# Altium footprint library LAY_90818_C172.PcbLib: 60 footprints (part 3 of 5)
Each footprint in its own frame and in the unit in brackets; x right, y up, seen from the top. Pads: shape width x height; smd on the part's side, far side on the other; paste and mask are expansions set on the pad; w line width, h text height; cw(c..) or ccw(c..) is an arc to the next point about the centre after c.
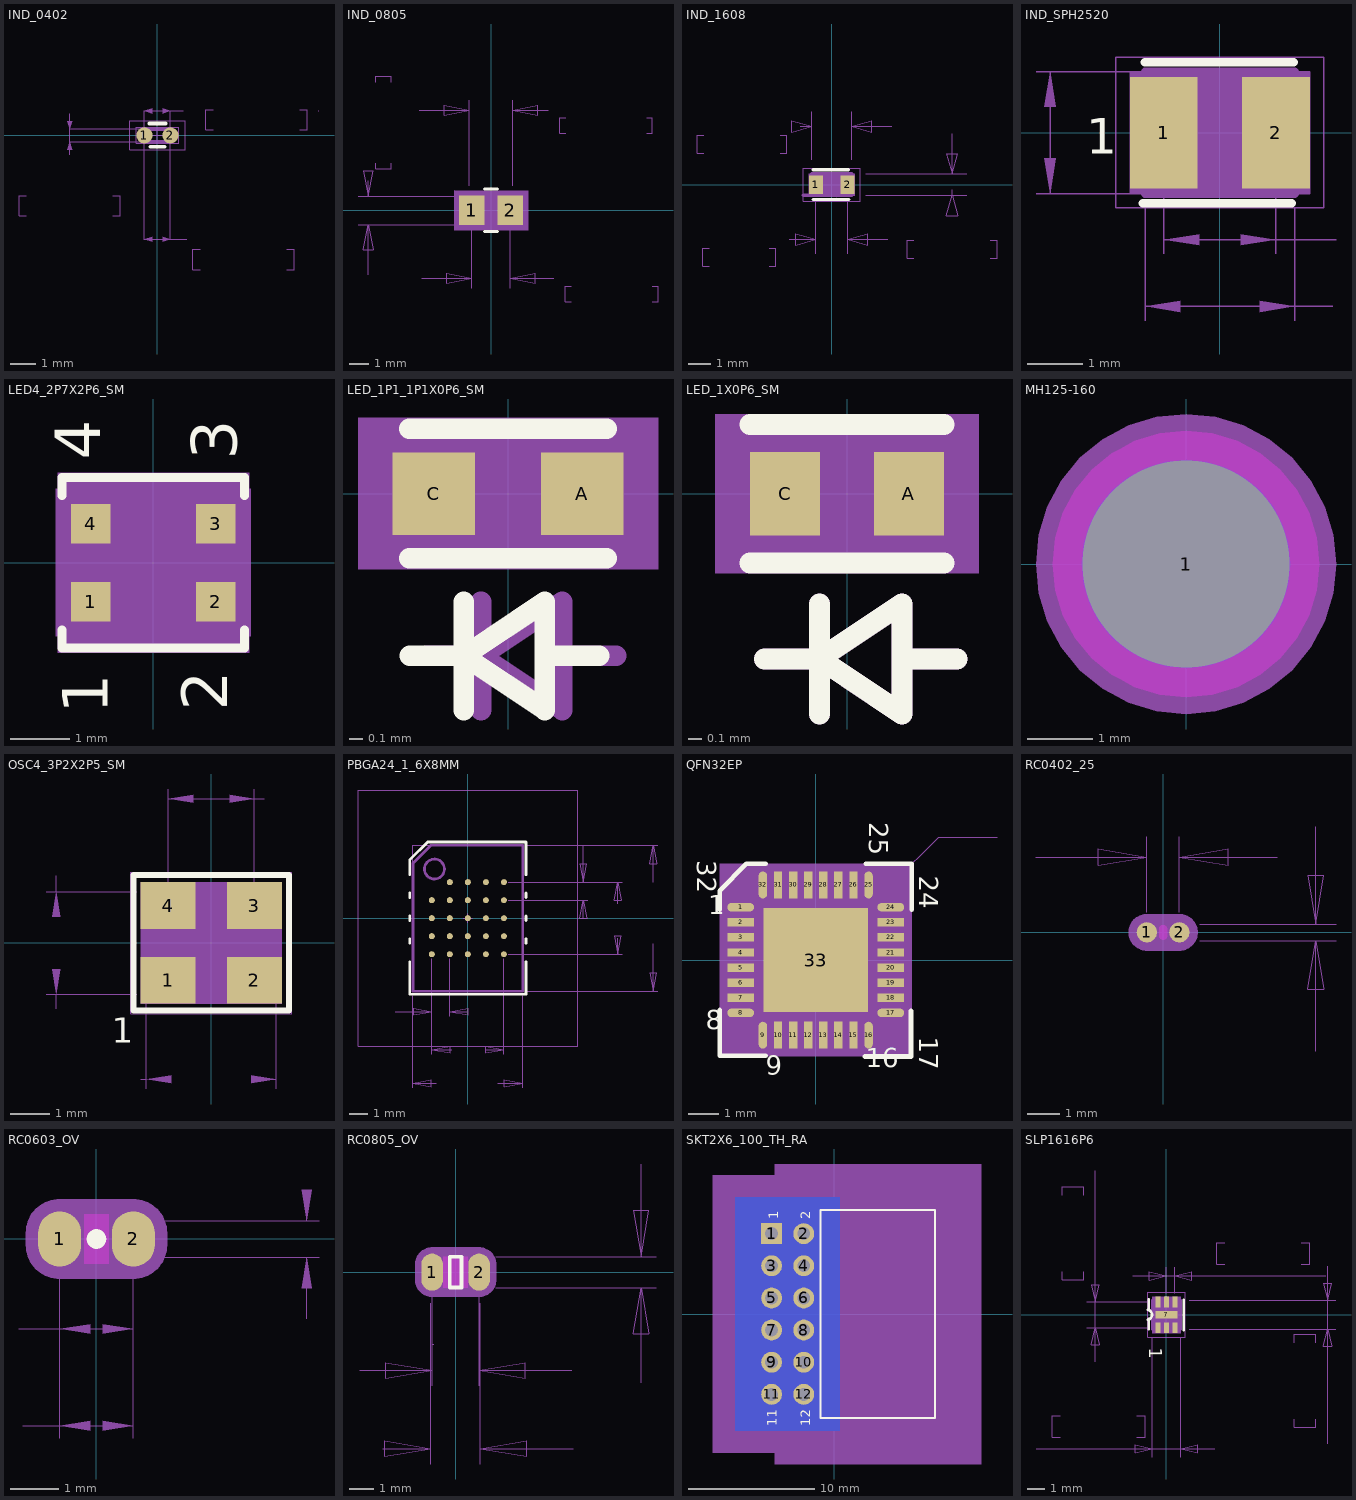
[diagram p2: the footprints below, top view; thin cyan lines are the x and y axes]

## IND_0402 [mil] "IND_0402"
pads (2):
  round 25 smd: 1(-20,0) 2(20,0)
Top Overlay:
  lines w5: -11.5,-17.5 11.5,-17.5
  lines w6: -12.5,18 12.5,18
  text ".Designator" at -125,-10 h30
Top Courtyard:
  lines w1: -32.5,-12.5 -32.5,12.5 32.5,12.5 32.5,-12.5 -32.5,-12.5
Top 3D Body:
  lines w1: -32.5,-12.5 -32.5,12.5 32.5,12.5 32.5,-12.5 -32.5,-12.5
Top Component Center:
  lines w1: -10,0 10,0 ; 0,-10 0,10
Mechanical34:
  text "1" at -20,-4 h10
  text "2" at 20,-4 h10
Mechanical38:
  dashed: 8.2,-163.9 20,-160 8.2,-156.1
  dashed: -8.2,-156.1 -20,-160 -8.2,-163.9
  dashed: 8.2,33.6 20,37.5 8.2,41.4
  dashed: -8.2,41.4 -20,37.5 -8.2,33.6
  dashed: -138.9,21.8 -135,10 -131.1,21.8
  dashed: -131.1,-21.8 -135,-10 -138.9,-21.8
  lines w1: -201.5,-124 -213,-124 -213,-93 -201.5,-93 ; -135.4,-10 -20.4,-10 ; -135.4,10 -20.4,10 ; -135,-30 -135,-10 -135,10 -135,33.6 ; -68.5,-124 -57,-124 -57,-93 -68.5,-93 ; -20,-160.4 -20,-0.4 ; -20,10.4 -20,37.9 ; 20,-160.4 20,-0.4 ; 20,10.4 20,37.9 ; 40,37.5 20,37.5 ; 45,-160 20,-160 ; 66,-206.5 54.5,-206.5 54.5,-175.5 66,-175.5 ; 86,8.5 74.5,8.5 74.5,39.5 86,39.5 ; 199,-206.5 210.5,-206.5 210.5,-175.5 199,-175.5 ; 219,8.5 230.5,8.5 230.5,39.5 219,39.5 ; 247.5,37.5 248.7,37.5 ; 20,-160 -20,-160 20,-160 ; 20,37.5 -20,37.5 20,37.5
  text "IND_0402" at -74,202.2 h25
  text "C025S" at 65,-287.5 h25
  text "ALL DIMS IN MILS[MM]" at -255,-347.5 h25
  text "PADS 1-2" at -190,-287.5 h25
  text "40.00" at 61.5,-144.5 h25
  text "1.02" at 77.5,-206.5 h25
  text "40.00" at 81.5,70.5 h25
  text "1.02" at 97.5,8.5 h25
  text "20.00" at -206,-62 h25
  text "0.51" at -190,-124 h25
Top Assembly:
  lines w6: -20,-10 20,-10 20,10 -20,10 -20,-10
Mechanical40:
  lines w1: -42.5,-22.5 -42.5,22.5 42.5,22.5 42.5,-22.5 -42.5,-22.5

## IND_0805 [mil] "IND_0805"
pads (2):
  rect 51x59 smd: 1(-38.5,0) 2(38.5,0)
Top Overlay:
  lines w6: -13.2,42.5 13,42.5 ; -13,-42.5 13,-42.5
Top Courtyard:
  dashed: -64,-31.5 64,-31.5 64,31.5 -64,31.5
Top 3D Body:
  region: -64,-31.5 64,-31.5 64,31.5 -64,31.5
Top Component Center:
  lines w1: -10,0 10,0 ; 0,-10 0,10
Mechanical 31:
  dashed: -74.1,39.6 -74,-39.5 74,-39.5 74,39.5
Mechanical34:
  text "2" at 39,-3 h10
  text "1" at -30,-4 h10
Mechanical35:
  lines w1: -266,-28.5 23.5,-28.5 ; -266,28.5 23.5,28.5 ; -246,-128.5 -246,-28.5 ; -246,59.25 -246,28.5 ; -230.5,94 -230.5,82.5 -199.5,82.5 -199.5,94 ; -230.5,256 -230.5,267.5 -199.5,267.5 -199.5,256 ; -143.5,200 -43.5,200 ; -138.5,-136 -38.5,-136 ; -43.5,48.5 -43.5,220 ; -38.5,-156 -38.5,-20 ; 38.5,-156 38.5,-20 ; 43.5,48.5 43.5,220 ; 114.25,200 43.5,200 ; 125.25,-136 38.5,-136 ; 149,153.5 137.5,153.5 137.5,184.5 149,184.5 ; 160,-182.5 148.5,-182.5 148.5,-151.5 160,-151.5 ; 311,153.5 322.5,153.5 322.5,184.5 311,184.5 ; 322,-182.5 333.5,-182.5 333.5,-151.5 322,-151.5 ; -246,-28.5 -236,-78.5 -256,-78.5 -246,-28.5 ; -246,28.5 -256,78.5 -236,78.5 -246,28.5 ; -43.5,200 -93.5,190 -93.5,210 -43.5,200 ; -38.5,-136 -88.5,-146 -88.5,-126 -38.5,-136 ; 38.5,-136 88.5,-126 88.5,-146 38.5,-136 ; 43.5,200 93.5,210 93.5,190 43.5,200
  text "R051x059S PINS 1+2" at 159,295 h25
  text "IND_0805" at 62,372 h25
  text "ALL DIMS IN MM[MILS]" at 206.8,-275 h25
  text "2.21" at 173.5,215.5 h25
  text "87.00" at 160.5,153.5 h25
  text "1.96" at 184.5,-120.5 h25
  text "77.00" at 171.5,-182.5 h25
  text "1.45" at -261.5,118.5 h25
  text "57.00" at -199.5,105.5 h25
Top Assembly:
  lines w6: -43.5,-28.5 43.5,-28.5 43.5,28.5 -43.5,28.5 -43.5,-28.5
3D body: height 150, standoff 0, extent -64,-31.5 64,31.5

## IND_1608 [mil] "IND_1608"
pads (2):
  rect 24x32 smd: 1(-27.65,0) 2(27.55,0)
Top Overlay:
  lines w6: -32.05,-25.8 29.95,-25.8 ; -32.05,25.8 28.95,25.8
Top Courtyard:
  dashed: -39.55,-18.8 39.55,-18.8 39.55,18.8 -39.55,18.8
Top 3D Body:
  lines w1: -39.55,-18.8 39.55,-18.8 39.55,18.8 -39.55,18.8 -39.55,-18.8
Top Component Center:
  lines w1: -10.05,0 9.95,0 ; -0.05,-10 -0.05,10
Mechanical 31:
  lines w1: -49.55,-28.8 49.55,-28.8 49.55,28.8 -49.55,28.8 -49.55,-28.8
Mechanical34:
  text "1" at -31.65,0 h10
  text "2" at 23.55,0 h10
Mechanical35:
  lines w1: -223.05,55 -234.55,55 -234.55,86 -223.05,86 ; -213.15,-141.5 -224.65,-141.5 -224.65,-110.5 -213.15,-110.5 ; -109.15,-141.5 -97.65,-141.5 -97.65,-110.5 -109.15,-110.5 ; -90.05,55 -78.55,55 -78.55,86 -90.05,86 ; -74.35,-95 -27.65,-95 ; -55.25,101.5 -34.55,101.5 ; -34.55,43.7 -34.55,126.5 ; -27.65,-120 -27.65,-25 ; 7.65,-22.1 7.65,-21.8 ; 27.55,-120 27.55,-25 ; 34.45,43.7 34.45,126.5 ; 59.45,-18.7 234.45,-18.7 ; 59.45,18.7 234.45,18.7 ; 97.55,-95 27.55,-95 ; 104.45,101.5 34.45,101.5 ; 142.95,-128 131.45,-128 131.45,-97 142.95,-97 ; 209.45,-8.8 209.45,-18.7 ; 209.45,88.7 209.45,18.7 ; 275.95,-128 287.45,-128 287.45,-97 275.95,-97 ; -34.55,101.5 -69.55,91.5 -69.55,111.5 -34.55,101.5 ; -27.65,-95 -62.65,-105 -62.65,-85 -27.65,-95 ; 27.55,-95 62.55,-85 62.55,-105 27.55,-95 ; 34.45,101.5 69.45,111.5 69.45,91.5 34.45,101.5 ; 209.45,-18.7 219.45,-53.7 199.45,-53.7 209.45,-18.7 ; 209.45,18.7 199.45,53.7 219.45,53.7 209.45,18.7
  text "PAD 1,2 R024X032S" at -230.85,248.6 h25
  text "IND_1608" at -129.45,317.8 h25
  text "55.1" at -217.65,-79.5 h25
  text "1.4" at -201.65,-141.5 h25
  text "68.9" at -213.05,117 h25
  text "1.75" at -211.55,55 h25
  text "37.4" at 152.95,-66 h25
  text "0.95" at 154.45,-128 h25
Top Assembly:
  lines w6: -49.45,-18.7 34.45,-18.7 34.45,18.7 -34.55,18.7 -34.55,-18.7
  text ".Designator" at -20.05,-8 h25

## IND_SPH2520 [mil] "IND_SPH2520"
pads (2):
  rect 48x79 smd: 1(-39.75,0) 2(39.75,0)
Top Overlay:
  lines w5.98: -54.65,-50.24 50.87,-50.24 ; -53.23,50 52.28,50
  text ".Designator" at -114,60 h30
  text "1" at -95,-15 h25
Top Courtyard:
  lines w1: -63.76,-43.31 63.76,-43.31 63.76,43.31 -63.76,43.31 -63.76,-43.31
Top 3D Body:
  region: 63.76,43.31 63.76,-43.31 -63.76,-43.31 -63.76,43.31
Top Component Center:
  lines w1: -10,0 10,0 ; 0,-10 0,10
Mechanical 31:
  lines w1: -73.76,-53.31 73.76,-53.31 73.76,53.31 -73.76,53.31 -73.76,-53.31
Mechanical34:
  text "1" at -45.91,-3.49 h10
  text "2" at 33.59,-2.82 h10
Mechanical35:
  dashed: 28.15,-127.28 53.15,-123.28 28.15,-119.28
  dashed: -28.15,-119.28 -53.15,-123.28 -28.15,-127.28
  dashed: -116.47,18.31 -120.46,43.31 -124.46,18.31
  dashed: -124.46,-18.31 -120.46,-43.31 -116.47,-18.31
  dashed: 14.75,-79.96 39.75,-75.97 14.75,-71.97
  dashed: -14.75,-71.97 -39.75,-75.97 -14.75,-79.96
  lines w1: -130.46,-43.31 -63.15,-43.31 ; -130.46,43.31 -63.15,43.31 ; -120.46,-28.17 -120.46,-43.31 -120.46,43.31 ; -53.15,-133.28 -53.15,-53.31 ; -53.15,-123.28 53.15,-123.28 79.87,-123.28 ; -39.75,-85.97 -39.75,-10 ; -39.75,-75.97 39.75,-75.97 82.32,-75.97 ; 39.75,-85.97 39.75,-10 ; 53.15,-133.28 53.15,-53.31
  text "PADS R048x079S" at -148.72,-183.13 h31
  text "IND_SPH2520" at -136.43,122.41 h31
  text "ALL DIMS IN MM" at -153.5,-229.29 h31
  text "2.7" at 106.11,-138.78 h31
  text "2.2" at -104.96,-135.42 h31
  text "2.02" at 108.57,-91.47 h31
Top Assembly:
  lines w5.98: -53.15,-43.31 -53.15,43.31 53.15,43.31 53.15,-43.31 -53.15,-43.31
  text "1" at -97.19,-10.18 h25
3D body: height 150, standoff 0, extent -63.76,-43.31 63.76,43.31

## LED4_2P7X2P6_SM [mil] "LED4_2P7X2P6_SM"
pads (4):
  rect 26x26 smd: 1(-41.3,-25.6) 2(41.3,-25.6) 3(41.3,25.6) 4(-41.3,25.6)
Top Overlay:
  lines w6: -60.1,-44.3 -60.1,-56.2 60.1,-56.2 60.1,-44.3 ; -60.1,44.3 -60.1,56.2 60.1,56.2 60.1,44.3
  text ".Designator" at 105,-21 h30
  text "1" at -29.9,-99.7 h30
  text "3" at 55,68 h30
  text "4" at -35,68 h30
  text "2" at 48.8,-97.5 h30
Top Courtyard:
  dashed: -53.1,49.2 53.1,49.2 53.1,38.6 54.3,38.6 54.3,-38.6 53.1,-38.6 53.1,-49.2 -53.1,-49.2 -53.1,-38.6 -54.3,-38.6 -54.3,38.6 -53.1,38.6
Top 3D Body:
  region: -53.1,49.2 53.1,49.2 53.1,38.6 54.3,38.6 54.3,-38.6 53.1,-38.6 53.1,-49.2 -53.1,-49.2 -53.1,-38.6 -54.3,-38.6 -54.3,38.6 -53.1,38.6
Top Component Center:
  lines w1: -10,0 10,0 ; 0,-10 0,10
Mechanical 31:
  dashed: -63.1,48.6 -63.1,59.2 63.1,59.2 63.1,48.6 64.3,48.6 64.3,-48.6 63.1,-48.6 63.1,-59.2 -63.1,-59.2 -63.1,-48.6 -64.3,-48.6 -64.3,48.6
Mechanical34:
  text "1" at -41.3,-29.6 h10
  text "4" at -41.3,21.6 h10
  text "3" at 41.3,21.6 h10
  text "2" at 41.3,-29.6 h10
Mechanical35:
  text "PADS: S026S" at -4.9,-272.9 h25
  text "ALL DIMS IN MM" at 4.9,-362.2 h25
  text "LED4_2P7X2P6_SM" at 29.5,130 h25
Top Assembly:
  lines w6: -53.1,-49.2 53.1,-49.2 53.1,49.2 -53.1,49.2 -53.1,-49.2
  text "1" at -39.9,-109.7 h25
  text "3" at 83.7,51.3 h25
  text "4" at -83.7,46.4 h25
  text "2" at 38.8,-107.5 h25
3D body: height 150, standoff 0, extent -54.3,-49.2 54.3,49.2

## LED_1P1_1P1X0P6_SM [mil] "LED_1P1_1P1X0P6_SM"
pads (2):
  rect 24x24 smd: A(21.65,0) C(-21.65,0)
Top Overlay:
  lines w6: -28.65,-18.81 28.65,-18.81 ; -28.65,18.81 28.65,18.81 ; -28.62,-47.24 -12.87,-47.24 ; -12.87,-62.99 -12.87,-31.5 ; 10.75,-47.24 26.5,-47.24 ; -12.87,-47.24 10.75,-62.99 10.75,-31.5 -12.87,-47.24
  text ".Designator" at -15,85 h30
Top Courtyard:
  dashed: -33.65,12 -33.65,-12 33.65,-12 33.65,12
Top 3D Body:
  region: -33.65,-12 33.65,-12 33.65,12 -33.65,12
Top Component Center:
  lines w1: -10,0 10,0 ; 0,-10 0,10
Mechanical 31:
  dashed: -43.65,-22 43.65,-22 43.65,22 -43.65,22
Mechanical34:
  text "C" at -21.65,4 h10
  text "A" at 21.65,4 h10
Mechanical35:
  text "PADS S024S" at -157.48,-181.1 h31
  text "ALL DIMS IN MM." at -157.48,-228.35 h31
  text "LED_1P1_1P1X0P6_SM" at -242.25,60.53 h31
Top Assembly:
  lines w6: -23.62,-47.24 -7.87,-47.24 ; -7.87,-62.99 -7.87,-31.5 ; 15.75,-47.24 31.5,-47.24 ; -7.87,-47.24 15.75,-62.99 15.75,-31.5 -7.87,-47.24 ; -21.65,-11.81 -21.65,11.81 21.65,11.81 21.65,-11.81 -21.65,-11.81
3D body: height 150, standoff 0, extent -33.65,-12 33.65,12

## LED_1X0P6_SM [mil] "LED_1X0P6_SM"
pads (2):
  rect 20x24 smd: A(17.72,0) C(-17.72,0)
Top Overlay:
  lines w6: -27.67,-19.8 27.67,-19.8 ; -27.67,19.8 27.67,19.8 ; -23.62,-47.24 -7.87,-47.24 ; -7.87,-62.99 -7.87,-31.5 ; 15.75,-47.24 31.5,-47.24 ; -7.87,-47.24 15.75,-62.99 15.75,-31.5 -7.87,-47.24
  text ".Designator" at 15,40 h30
Top Courtyard:
  dashed: -27.72,-12.79 27.72,-12.79 27.72,12.79 -27.72,12.79
Top 3D Body:
  region: -27.72,-12.79 -27.72,12.79 27.72,12.79 27.72,-12.79
Top Component Center:
  lines w1: -10,0 10,0 ; 0,-10 0,10
Mechanical 31:
  dashed: -37.72,-22.8 37.72,-22.8 37.72,22.8 -37.72,22.8
Mechanical34:
  text "A" at 17.72,-4 h10
  text "C" at -17.72,-4 h10
Mechanical35:
  text "PADS R020X024S" at -157.48,-181.1 h31
  text "ALL DIMS IN MM." at -157.48,-228.35 h31
  text "LED_1X0P6_SM" at -157.48,204.72 h31
Top Assembly:
  lines w6: -23.62,-47.24 -7.87,-47.24 ; -7.87,-62.99 -7.87,-31.5 ; 15.75,-47.24 31.5,-47.24 ; -7.87,-47.24 15.75,-62.99 15.75,-31.5 -7.87,-47.24 ; -20.67,-12.79 20.67,-12.79 20.67,12.79 -20.67,12.79 -20.67,-12.79
3D body: height 150, standoff 0, extent -27.72,-12.79 27.72,12.79

## MH125-160 [mil] "MH125-160"
pads (1):
  round 60 hole 125 unplated: 1(0,0)
Bottom Layer:
  region: 62.8,0 61.6,12.25 58.02,24.03 52.22,34.89 44.41,44.41 34.89,52.22 24.03,58.02 12.25,61.6 0,62.8 -12.25,61.6 -24.03,58.02 -31.27,54.16 -34.89,52.22 -44.41,44.41 -52.22,34.89 -58.02,24.03 -61.6,12.25 -62.8,0 -61.6,-12.25 -58.02,-24.03 -52.22,-34.89 -44.41,-44.41 -34.89,-52.22 -31.27,-54.16 -24.03,-58.02 -12.25,-61.6 0,-62.8 12.25,-61.6 24.03,-58.02 34.89,-52.22 44.41,-44.41 52.22,-34.89 58.02,-24.03 61.6,-12.25
Bottom Overlay:
  text ".Designator" at -213.5,122 h30
Top Courtyard:
  dashed: 62.8,0 61.6,12.25 58.02,24.03 52.22,34.89 44.41,44.41 34.89,52.22 24.03,58.02 12.25,61.6 0,62.8 -12.25,61.6 -24.03,58.02 -31.27,54.16 -34.89,52.22 -44.41,44.41 -52.22,34.89 -58.02,24.03 -61.6,12.25 -62.8,0 -61.6,-12.25 -58.02,-24.03 -52.22,-34.89 -44.41,-44.41 -34.89,-52.22 -31.27,-54.16 -24.03,-58.02 -12.25,-61.6 0,-62.8 12.25,-61.6 24.03,-58.02 34.89,-52.22 44.41,-44.41 52.22,-34.89 58.02,-24.03 61.6,-12.25
Bottom Courtyard:
  dashed: 62.8,0 61.6,12.25 58.02,24.03 52.22,34.89 44.41,44.41 34.89,52.22 24.03,58.02 12.25,61.6 0,62.8 -12.25,61.6 -24.03,58.02 -31.27,54.16 -34.89,52.22 -44.41,44.41 -52.22,34.89 -58.02,24.03 -61.6,12.25 -62.8,0 -61.6,-12.25 -58.02,-24.03 -52.22,-34.89 -44.41,-44.41 -34.89,-52.22 -31.27,-54.16 -24.03,-58.02 -12.25,-61.6 0,-62.8 12.25,-61.6 24.03,-58.02 34.89,-52.22 44.41,-44.41 52.22,-34.89 58.02,-24.03 61.6,-12.25
Top 3D Body:
  region: 62.8,0 61.6,12.25 58.02,24.03 52.22,34.89 44.41,44.41 34.89,52.22 24.03,58.02 12.25,61.6 0,62.8 -12.25,61.6 -24.03,58.02 -31.27,54.16 -34.89,52.22 -44.41,44.41 -52.22,34.89 -58.02,24.03 -61.6,12.25 -62.8,0 -61.6,-12.25 -58.02,-24.03 -52.22,-34.89 -44.41,-44.41 -34.89,-52.22 -31.27,-54.16 -24.03,-58.02 -12.25,-61.6 0,-62.8 12.25,-61.6 24.03,-58.02 34.89,-52.22 44.41,-44.41 52.22,-34.89 58.02,-24.03 61.6,-12.25
Top Component Center:
  lines w1: -10,0 10,0 ; 0,-10 0,10
Multi-Layer keep-out:
  region: 80.39,0 78.84,15.68 74.27,30.76 66.84,44.66 56.84,56.84 44.66,66.84 30.76,74.27 15.68,78.84 0,80.39 -15.68,78.84 -30.76,74.27 -40.02,69.32 -44.66,66.84 -56.84,56.84 -66.84,44.66 -74.27,30.76 -78.84,15.68 -80.39,0 -78.84,-15.68 -74.27,-30.76 -66.84,-44.66 -56.84,-56.84 -44.66,-66.84 -40.02,-69.32 -30.76,-74.27 -15.68,-78.84 0,-80.39 15.68,-78.84 30.76,-74.27 44.66,-66.84 56.84,-56.84 66.84,-44.66 74.27,-30.76 78.84,-15.68
  region: 80.39,0 78.84,15.68 74.27,30.76 66.84,44.66 56.84,56.84 44.66,66.84 30.76,74.27 15.68,78.84 0,80.39 -15.68,78.84 -30.76,74.27 -40.02,69.32 -44.66,66.84 -56.84,56.84 -66.84,44.66 -74.27,30.76 -78.84,15.68 -80.39,0 -78.84,-15.68 -74.27,-30.76 -66.84,-44.66 -56.84,-56.84 -44.66,-66.84 -40.02,-69.32 -30.76,-74.27 -15.68,-78.84 0,-80.39 15.68,-78.84 30.76,-74.27 44.66,-66.84 56.84,-56.84 66.84,-44.66 74.27,-30.76 78.84,-15.68
Mechanical 31:
  dashed: 90.44,0 88.7,17.64 83.55,34.61 75.19,50.24 63.95,63.95 50.24,75.19 34.61,83.55 17.64,88.7 0,90.44 -17.64,88.7 -34.61,83.55 -45.02,77.98 -50.24,75.19 -63.95,63.95 -75.19,50.24 -83.55,34.61 -88.7,17.64 -90.44,0 -88.7,-17.64 -83.55,-34.61 -75.19,-50.24 -63.95,-63.95 -50.24,-75.19 -45.02,-77.98 -34.61,-83.55 -17.64,-88.7 0,-90.44 17.64,-88.7 34.61,-83.55 50.24,-75.19 63.95,-63.95 75.19,-50.24 83.55,-34.61 88.7,-17.64
Mechanical34:
  text "1" at -4,0 h10
Mechanical35:
  text "PAD C125-125N" at -187.4,-162.1 h31
  text "MH125-160" at -110,161.7 h31
3D body: height 150, standoff 0, extent -62.8,-62.8 62.8,62.8

## OSC4_3P2X2P5_SM [mil] "OSC4_3P2X2P5_SM"
pads (4):
  rect 55x47 smd: 1(-43.29,-37.4) 2(43.33,-37.4) 3(43.33,37.4) 4(-43.29,37.4)
Top Overlay:
  lines w6: -77.81,-67.9 -77.81,67.9 77.81,67.9 77.81,-67.9 -77.81,-67.9
  text ".Designator" at 111.02,-10 h30
  text "1" at -99.98,-100 h25
Top Courtyard:
  dashed: -70.81,-60.9 70.81,-60.9 70.81,60.9 -70.81,60.9
Top 3D Body:
  region: -70.81,-60.9 70.81,-60.9 70.81,60.9 -70.81,60.9
Top Component Center:
  lines w1: -9.98,0 10.02,0 ; 0.02,-10 0.02,10
Mechanical 31:
  lines w1: -80.81,-70.9 80.81,-70.9 80.81,70.9 -80.81,70.9 -80.81,-70.9
Mechanical34:
  text "4" at -45.28,24.41 h10
  text "1" at -45.28,-44.41 h10
  text "3" at 42.32,24.41 h10
  text "2" at 42.32,-44.41 h10
Mechanical35:
  dashed: 18.33,140.34 43.33,144.33 18.33,148.33
  dashed: -18.29,148.33 -43.29,144.33 -18.29,140.34
  dashed: 39.98,-140.41 64.98,-136.42 39.98,-132.42
  dashed: -39.94,-132.42 -64.94,-136.42 -39.94,-140.41
  dashed: -151.53,26.18 -155.53,51.18 -159.53,26.18
  dashed: -159.53,-26.18 -155.53,-51.18 -151.53,-26.18
  lines w1: -165.53,-51.18 -74.94,-51.18 ; -165.53,51.18 -74.94,51.18 ; -155.53,-66.16 -155.53,-51.18 ; -155.53,51.18 -155.53,67.34 ; -70.86,-136.42 -64.94,-136.42 ; -64.94,-146.42 -64.94,-61.18 ; -43.29,41.5 -43.29,154.33 ; -43.29,144.33 43.33,144.33 53.27,144.33 ; 43.33,41.5 43.33,154.33 ; 62.63,-136.42 64.98,-136.42 ; 64.98,-146.42 64.98,-61.18
  text "PADS R055X047S" at -171.69,-223.35 h31
  text "OSC4_3P2X2P5_SM" at -173.7,241.42 h31
  text "ALL DIMS IN MM" at -169.68,-270 h31
  text "2.2" at 79.52,128.83 h31
  text "3.3" at -44.61,-151.92 h31
  text "2.6" at -140.03,-39.91 h31
Top Assembly:
  lines w6: -64.94,-51.18 64.98,-51.18 64.98,51.18 -64.94,51.18 -64.94,-51.18
  text "1" at -114.15,-57.16 h25
3D body: height 150, standoff 0, extent -70.81,-60.9 70.81,60.9

## PBGA24_1_6X8MM [mil] "PBGA24_1_6X8MM"
pads (24):
  round 13 smd: A2(-39.37,78.74) A3(0,78.74) A4(39.37,78.74) A5(78.74,78.74) B1(-78.74,39.37) B2(-39.37,39.37) B3(0,39.37) B4(39.37,39.37) B5(78.74,39.37) C1(-78.74,0) C2(-39.37,0) C3(0,0) C4(39.37,0) C5(78.74,0) D1(-78.74,-39.37) D2(-39.37,-39.37) D3(0,-39.37) D4(39.37,-39.37) D5(78.74,-39.37) E1(-78.74,-78.74) E2(-39.37,-78.74) E3(0,-78.74) E4(39.37,-78.74) E5(78.74,-78.74)
Top Overlay:
  lines w6: -127.08,-95 -127.08,-166.45 127.08,-166.45 127.08,-95 ; -127.08,-55 -127.08,-45 ; -127.08,-5 -127.08,5 ; -127.08,45 -127.08,55 ; -127.08,95 -127.08,127.08 -87.71,166.45 127.08,166.45 127.08,95 ; 127.08,-55 127.08,-45 ; 127.08,-5 127.08,5 ; 127.08,45 127.08,55
Top Courtyard:
  lines w1: -120.08,-159.45 120.08,-159.45 120.08,159.45 -120.08,159.45 -120.08,-159.45
Top 3D Body:
  lines w1: -120.08,-159.45 120.08,-159.45 120.08,159.45 -120.08,159.45 -120.08,-159.45
Top Component Center:
  lines w1: -10,0 10,0 ; 0,-10 0,10
Mechanical 31:
  lines w1: -240.08,-279.45 240.08,-279.45 240.08,279.45 -240.08,279.45 -240.08,-279.45
Mechanical34:
  text "B4" at 34.1,34.34 h10
  text "E4" at 34.1,-83.77 h10
  text "D1" at -84.01,-44.4 h10
  text "A4" at 34.1,73.71 h10
  text "A3" at -5.27,73.71 h10
  text "C2" at -44.64,-5.03 h10
  text "B2" at -44.64,34.34 h10
  text "C3" at -5.27,-5.03 h10
  text "E1" at -84.01,-83.77 h10
  text "E2" at -44.64,-83.77 h10
  text "E3" at -5.27,-83.77 h10
  text "D5" at 73.47,-44.4 h10
  text "D4" at 34.1,-44.4 h10
  text "C4" at 34.1,-5.03 h10
  text "D2" at -44.64,-44.4 h10
  text "D3" at -5.27,-44.4 h10
  text "C5" at 73.47,-5.03 h10
  text "A2" at -44.64,73.71 h10
  text "A5" at 73.47,73.71 h10
  text "B1" at -84.01,34.34 h10
  text "B5" at 73.47,34.34 h10
  text "E5" at 73.47,-83.77 h10
  text "B3" at -5.27,34.34 h10
  text "C1" at -84.01,-5.03 h10
Mechanical35:
  lines w1: -158.74,-203.95 -78.74,-203.95 ; -120.08,-370.46 -120.08,-169.45 ; -78.74,-297.09 -78.74,-88.74 -78.74,-213.95 ; -68.7,-360.46 -120.08,-360.46 ; -39.37,-213.95 -39.37,-88.74 ; -35.73,-287.09 -78.74,-287.09 ; -0.31,-203.95 -39.37,-203.95 ; 39.76,-287.09 78.74,-287.09 ; 64.79,-360.46 120.08,-360.46 ; 78.74,-297.09 78.74,-88.74 ; 88.74,-78.74 337.74,-78.74 ; 88.74,39.37 262.5,39.37 ; 120.08,-370.46 120.08,-169.45 ; 130.08,-159.45 415.56,-159.45 ; 130.08,159.45 415.56,159.45 ; 252.5,1.15 252.5,39.37 ; 252.5,158.74 252.5,78.74 ; 262.5,78.74 88.74,78.74 337.74,78.74 ; 327.74,-43.78 327.74,-78.74 ; 327.74,31.72 327.74,78.74 ; 405.56,-55.39 405.56,-159.45 ; 405.56,78.11 405.56,159.45 ; -120.08,-360.46 -80.08,-352.96 -80.08,-367.96 -120.08,-360.46 ; -78.74,-287.09 -38.74,-279.59 -38.74,-294.59 -78.74,-287.09 ; -78.74,-203.95 -118.74,-211.45 -118.74,-196.45 -78.74,-203.95 ; -39.37,-203.95 0.63,-196.45 0.63,-211.45 -39.37,-203.95 ; 78.74,-287.09 38.74,-294.59 38.74,-279.59 78.74,-287.09 ; 120.08,-360.46 80.08,-367.96 80.08,-352.96 120.08,-360.46 ; 252.5,39.37 260,-0.63 245,-0.63 252.5,39.37 ; 252.5,78.74 245,118.74 260,118.74 252.5,78.74 ; 327.74,-78.74 320.24,-38.74 335.24,-38.74 327.74,-78.74 ; 327.74,78.74 335.24,38.74 320.24,38.74 327.74,78.74 ; 405.56,-159.45 398.06,-119.45 413.06,-119.45 405.56,-159.45 ; 405.56,159.45 413.06,119.45 398.06,119.45 405.56,159.45
  text "PBGA24_1_6X8MM" at -180.82,256.06 h31
  text "PADS A2-E5- C013S" at -201.82,-457.71 h31
  text "ALL DIMS ARE IN MM" at -204.85,-525.99 h31
  text "4" at 343.24,-17.53 h31
  text "8.1" at 421.06,-29.14 h31
  text "1" at 25.94,-219.45 h31
  text "4" at -9.48,-302.59 h31
  text "6.1" at -42.46,-375.96 h31
  text "1" at 268,-48.1 h31
Top Assembly:
  circle w6: c-73.07,107.41 r21.78
  lines w6: -120.08,-159.45 120.08,-159.45 120.08,159.45 -80.71,159.45 -120.08,120.08 -120.08,-159.45
  text "A" at -159.92,75.47 h25
  text "E" at -162.66,-98.8 h25
  text ".Designator" at -16.89,-9.4 h25
  text "1" at -95.41,184.13 h25
  text "5" at 72,184.82 h25

## QFN32EP [mil] "QFN32EP"
pads (33):
  oval 35x11 smd: 1(-98.01,68.95) 8(-98.01,-68.95) 17(98.01,-68.95) 24(98.01,68.95)
  rect 35x11 smd: 2(-98.01,49.25) 3(-98.01,29.55) 4(-98.01,9.85) 5(-98.01,-9.85) 6(-98.01,-29.55) 7(-98.01,-49.25) 18(98.01,-49.25) 19(98.01,-29.55) 20(98.01,-9.85) 21(98.01,9.85) 22(98.01,29.55) 23(98.01,49.25)
  oval 11x35 smd: 9(-68.95,-98.01) 16(68.95,-98.01) 25(68.95,98.01) 32(-68.95,98.01)
  rect 11x35 smd: 10(-49.25,-98.01) 11(-29.55,-98.01) 12(-9.85,-98.01) 13(9.85,-98.01) 14(29.55,-98.01) 15(49.25,-98.01) 26(49.25,98.01) 27(29.55,98.01) 28(9.85,98.01) 29(-9.85,98.01) 30(-29.55,98.01) 31(-49.25,98.01)
  rect 136x136 smd: 33(0,0)
Top Overlay:
  lines w6: -125.51,-65.12 -125.51,-125.12 -65.51,-125.12 ; -125.51,65.51 -125.51,90.51 -90.51,125.51 -65.51,125.51 ; 64.33,-125.91 124.33,-125.91 124.33,-65.91 ; 65.12,125.91 125.12,125.91 125.12,65.91
  text ".Designator" at 20,195 h30
  text "1" at -140,60 h25
  text "8" at -143.31,-90 h25
  text "9" at -65,-150 h25
  text "16" at 65,-140 h25
  text "17" at 135,-100 h25
  text "24" at 135,110 h25
  text "25" at 70,180 h25
  text "32" at -155,130 h25
Top Paste:
  dashed: -63,5 -5,5 -5,63 -63,63
  dashed: 5,5 63,5 63,63 5,63
  dashed: -63,-63 -5,-63 -5,-5 -63,-5
  dashed: 5,-63 63,-63 63,-5 5,-5
Top Courtyard:
  dashed: 115.51,115.51 115.51,-115.51 -115.51,-115.51 -115.51,115.51
Top 3D Body:
  region: -115.51,-115.51 115.51,-115.51 115.51,115.51 -115.51,115.51
Top Component Center:
  lines w1: -10,0 10,0 ; 0,-10 0,10
Mechanical 31:
  dashed: -125.51,-125.51 125.51,-125.51 125.51,125.51 -125.51,125.51
Mechanical34:
  text "15" at 49.25,-90.01 h10
  text "14" at 29.55,-90.01 h10
  text "21" at 98.01,17.85 h10
  text "13" at 9.85,-90.01 h10
  text "20" at 98.01,-1.85 h10
  text "24" at 98.01,76.95 h10
  text "25" at 68.95,106.01 h10
  text "18" at 98.01,-41.25 h10
  text "6" at -98.01,-25.55 h10
  text "31" at -49.25,106.01 h10
  text "30" at -29.55,106.01 h10
  text "28" at 9.85,106.01 h10
  text "29" at -9.85,106.01 h10
  text "17" at 98.01,-60.95 h10
  text "19" at 98.01,-21.55 h10
  text "27" at 29.55,106.01 h10
  text "1" at -98.01,72.95 h10
  text "2" at -98.01,53.25 h10
  text "5" at -98.01,-5.85 h10
  text "22" at 98.01,37.55 h10
  text "23" at 98.01,57.25 h10
  text "32" at -68.95,106.01 h10
  text "16" at 68.95,-90.01 h10
  text "3" at -98.01,33.55 h10
  text "26" at 49.25,106.01 h10
  text "12" at -9.85,-90.01 h10
  text "7" at -98.01,-45.25 h10
  text "11" at -29.55,-90.01 h10
  text "10" at -49.25,-90.01 h10
  text "9" at -68.95,-94.01 h10
  text "8" at -98.01,-64.95 h10
  text "33" at 0,8 h10
  text "4" at -98.01,13.85 h10
Mechanical35:
  lines w1: 236.6,160.46 160.46,160.46 101.4,101.41 ; 101.42,101.42 -77.4,101.42 -101.42,77.4 -101.42,-101.42 101.42,-101.42 101.42,101.42 ; 101.4,101.41 121.91,116.26 116.25,121.91 101.4,101.41
  text "QFN32EP" at -1.97,366.72 h31
  text "25" at 66.93,152.28 h25
  text "32" at -98.82,161.34 h25
  text "1" at -135.83,71.42 h25
  text "8" at -140.94,-86.85 h25
  text "9" at -68.11,-141.97 h25
  text "16" at 68.9,-131.57 h25
  text "17" at 147.24,-61.1 h25
  text "24" at 143.31,79.06 h25
  text "OUTLINE" at 260.47,150.16 h31
  text "PACKAGE" at 259.52,196.46 h31
  text "ALL DIMS ARE IN MM" at -251.81,-315.13 h31
  text "(DIM. FOR REF. ONLY)" at -278.83,-363.62 h31
Top Assembly:
  lines w6: -101.4,-101.4 101.4,-101.4 101.4,101.4 -77.4,101.4 -101.4,77.4 -101.4,-101.4
  text "1" at -135.61,70.49 h25
  text "8" at -140.55,-87.24 h25
  text "9" at -68.42,-141.04 h25
  text "16" at 68.9,-130.79 h25
  text "17" at 146.85,-61.1 h25
  text "24" at 143.31,79.45 h25
  text "25" at 66.93,152.28 h25
  text "32" at -98.82,160.94 h25
3D body: height 150, standoff 0, extent -115.51,-115.51 115.51,115.51

## RC0402_25 [mil] "RC0402_25"
pads (2):
  round 25 smd: 1(-20,0) 2(20,0)
Top Layer keep-out:
  region: 5,4 5,-4 4.98,-4.44 4.92,-4.87 4.83,-5.29 4.7,-5.71 4.53,-6.11 4.33,-6.5 4.1,-6.87 3.83,-7.21 3.54,-7.54 3.21,-7.83 2.87,-8.1 2.5,-8.33 2.11,-8.53 1.71,-8.7 1.29,-8.83 0.87,-8.92 0.44,-8.98 0,-9 -0.44,-8.98 -0.87,-8.92 -1.29,-8.83 -1.71,-8.7 -2.11,-8.53 -2.5,-8.33 -2.87,-8.1 -3.21,-7.83 -3.54,-7.54 -3.83,-7.21 -4.1,-6.87 -4.33,-6.5 -4.53,-6.11 -4.7,-5.71 -4.83,-5.29 -4.92,-4.87 -4.98,-4.44 -5,-4 -5,4 -4.98,4.44 -4.92,4.87 -4.83,5.29 -4.7,5.71 -4.53,6.11 -4.33,6.5 -4.1,6.87 -3.83,7.21 -3.54,7.54 -3.21,7.83 -2.87,8.1 -2.5,8.33 -2.11,8.53 -1.71,8.7 -1.29,8.83 -0.87,8.92 -0.44,8.98 0,9 0.44,8.98 0.87,8.92 1.29,8.83 1.71,8.7 2.11,8.53 2.5,8.33 2.87,8.1 3.21,7.83 3.54,7.54 3.83,7.21 4.1,6.87 4.33,6.5 4.53,6.11 4.7,5.71 4.83,5.29 4.92,4.87 4.98,4.44
Top Courtyard:
  dashed: 20,-12.5 21.09,-12.45 22.17,-12.31 23.24,-12.07 24.28,-11.75 25.28,-11.33 26.25,-10.83 27.17,-10.24 28.03,-9.58 28.84,-8.84 29.58,-8.03 30.24,-7.17 30.83,-6.25 31.33,-5.28 31.75,-4.28 32.07,-3.24 32.31,-2.17 32.45,-1.09 32.5,0 32.45,1.09 32.31,2.17 32.07,3.24 31.75,4.28 31.33,5.28 30.83,6.25 30.24,7.17 29.58,8.03 28.84,8.84 28.03,9.58 27.17,10.24 26.25,10.83 25.28,11.33 24.28,11.75 23.24,12.07 22.17,12.31 21.09,12.45 20,12.5 -20,12.5 -21.09,12.45 -22.17,12.31 -23.24,12.07 -24.28,11.75 -25.28,11.33 -26.25,10.83 -27.17,10.24 -28.03,9.58 -28.84,8.84 -29.58,8.03 -30.24,7.17 -30.83,6.25 -31.33,5.28 -31.75,4.28 -32.07,3.24 -32.31,2.17 -32.45,1.09 -32.5,0 -32.45,-1.09 -32.31,-2.17 -32.07,-3.24 -31.75,-4.28 -31.33,-5.28 -30.83,-6.25 -30.24,-7.17 -29.58,-8.03 -28.84,-8.84 -28.03,-9.58 -27.17,-10.24 -26.25,-10.83 -25.28,-11.33 -24.28,-11.75 -23.24,-12.07 -22.17,-12.31 -21.09,-12.45 -20,-12.5
Top 3D Body:
  region: 20,-12.5 21.09,-12.45 22.17,-12.31 23.24,-12.07 24.28,-11.75 25.28,-11.33 26.25,-10.83 27.17,-10.24 28.03,-9.58 28.84,-8.84 29.58,-8.03 30.24,-7.17 30.83,-6.25 31.33,-5.28 31.75,-4.28 32.07,-3.24 32.31,-2.17 32.45,-1.09 32.5,0 32.45,1.09 32.31,2.17 32.07,3.24 31.75,4.28 31.33,5.28 30.83,6.25 30.24,7.17 29.58,8.03 28.84,8.84 28.03,9.58 27.17,10.24 26.25,10.83 25.28,11.33 24.28,11.75 23.24,12.07 22.17,12.31 21.09,12.45 20,12.5 -20,12.5 -21.09,12.45 -22.17,12.31 -23.24,12.07 -24.28,11.75 -25.28,11.33 -26.25,10.83 -27.17,10.24 -28.03,9.58 -28.84,8.84 -29.58,8.03 -30.24,7.17 -30.83,6.25 -31.33,5.28 -31.75,4.28 -32.07,3.24 -32.31,2.17 -32.45,1.09 -32.5,0 -32.45,-1.09 -32.31,-2.17 -32.07,-3.24 -31.75,-4.28 -31.33,-5.28 -30.83,-6.25 -30.24,-7.17 -29.58,-8.03 -28.84,-8.84 -28.03,-9.58 -27.17,-10.24 -26.25,-10.83 -25.28,-11.33 -24.28,-11.75 -23.24,-12.07 -22.17,-12.31 -21.09,-12.45 -20,-12.5
Top Component Center:
  lines w1: -10,0 10,0 ; 0,-10 0,10
Mechanical 31:
  dashed: -20,-22.5 -21.96,-22.41 -23.91,-22.16 -25.82,-21.73 -27.7,-21.14 -29.51,-20.39 -31.25,-19.49 -32.91,-18.43 -34.46,-17.24 -35.91,-15.91 -37.24,-14.46 -38.43,-12.91 -39.49,-11.25 -40.39,-9.51 -41.14,-7.7 -41.73,-5.82 -42.16,-3.91 -42.41,-1.96 -42.5,0 -42.41,1.96 -42.16,3.91 -41.73,5.82 -41.14,7.7 -40.39,9.51 -39.49,11.25 -38.43,12.91 -37.24,14.46 -35.91,15.91 -34.46,17.24 -32.91,18.43 -31.25,19.49 -29.51,20.39 -27.7,21.14 -25.82,21.73 -23.91,22.16 -21.96,22.41 -20,22.5 20,22.5 21.96,22.41 23.91,22.16 25.82,21.73 27.7,21.14 29.51,20.39 31.25,19.49 32.91,18.43 34.46,17.24 35.91,15.91 37.24,14.46 38.43,12.91 39.49,11.25 40.39,9.51 41.14,7.7 41.73,5.82 42.16,3.91 42.41,1.96 42.5,0 42.41,-1.96 42.16,-3.91 41.73,-5.82 41.14,-7.7 40.39,-9.51 39.49,-11.25 38.43,-12.91 37.24,-14.46 35.91,-15.91 34.46,-17.24 32.91,-18.43 31.25,-19.49 29.51,-20.39 27.7,-21.14 25.82,-21.73 23.91,-22.16 21.96,-22.41 20,-22.5
Mechanical34:
  text "1" at -16,0 h10
  text "2" at 24,0 h10
Mechanical35:
  lines w1: -156.3,92.5 -20,92.5 ; -20,25 -20,117.5 ; 20,25 20,117.5 ; 45,-10 212.5,-10 ; 45,10 212.5,10 ; 140,92.5 20,92.5 ; 187.5,-146.3 187.5,-10 ; 187.5,130 187.5,10 ; -20,92.5 -80,82.5 -80,102.5 -20,92.5 ; 20,92.5 80,102.5 80,82.5 20,92.5 ; 187.5,-10 197.5,-70 177.5,-70 187.5,-10 ; 187.5,10 177.5,70 197.5,70 187.5,10
  text ".020" at 203,-285.5 h25
  text ".040" at -295.5,77 h25
  text "ALL DIMS IN INCH" at 74,-203.5 h25
  text "RC0402_25" at -111.5,198.5 h25
  text "PAD C025S" at -198,-141.5 h25
Top Assembly:
  lines w6: -20,-10 20,-10 20,10 -20,10 -20,-10
3D body: height 150, standoff 0, extent -32.5,-12.5 32.5,12.5

## RC0603_OV [mil] "RC0603_OV"
pads (2):
  oval 35x45 smd: 1(-30,0) 2(30,0)
Top Layer keep-out:
  region: -10,20 10,20 10,-20 -10,-20
Top Overlay:
  circle w6: c0,0 r5
  dashed: 3.03,0.04 2.14,-2.1 0,-2.99 -1.41,-2.4 -2.14,-2.1 -3.03,0.04 -2.14,2.18 -1.41,2.48 0,3.07 2.14,2.18
  text ".Designator" at 35,70 h30
Top Courtyard:
  dashed: -30,22.5 30,22.5 31.53,22.43 33.04,22.23 34.53,21.9 35.99,21.44 37.4,20.86 38.75,20.16 40.04,19.34 41.25,18.41 42.37,17.37 43.41,16.25 44.34,15.04 45.16,13.75 45.86,12.4 46.44,10.99 46.9,9.53 47.23,8.04 47.43,6.53 47.5,5 47.5,-5 47.43,-6.53 47.23,-8.04 46.9,-9.53 46.44,-10.99 45.86,-12.4 45.16,-13.75 44.34,-15.04 43.41,-16.25 42.37,-17.37 41.25,-18.41 40.04,-19.34 38.75,-20.16 37.4,-20.86 35.99,-21.44 34.53,-21.9 33.04,-22.23 31.53,-22.43 30,-22.5 -30,-22.5 -31.53,-22.43 -33.04,-22.23 -34.53,-21.9 -35.99,-21.44 -37.4,-20.86 -38.75,-20.16 -40.04,-19.34 -41.25,-18.41 -42.37,-17.37 -43.41,-16.25 -44.34,-15.04 -45.16,-13.75 -45.86,-12.4 -46.44,-10.99 -46.9,-9.53 -47.23,-8.04 -47.43,-6.53 -47.5,-5 -47.5,5 -47.43,6.53 -47.23,8.04 -46.9,9.53 -46.44,10.99 -45.86,12.4 -45.16,13.75 -44.34,15.04 -43.41,16.25 -42.37,17.37 -41.25,18.41 -40.04,19.34 -38.75,20.16 -37.4,20.86 -35.99,21.44 -34.53,21.9 -33.04,22.23 -31.53,22.43
Top 3D Body:
  region: -30,22.5 30,22.5 31.53,22.43 33.04,22.23 34.53,21.9 35.99,21.44 37.4,20.86 38.75,20.16 40.04,19.34 41.25,18.41 42.37,17.37 43.41,16.25 44.34,15.04 45.16,13.75 45.86,12.4 46.44,10.99 46.9,9.53 47.23,8.04 47.43,6.53 47.5,5 47.5,-5 47.43,-6.53 47.23,-8.04 46.9,-9.53 46.44,-10.99 45.86,-12.4 45.16,-13.75 44.34,-15.04 43.41,-16.25 42.37,-17.37 41.25,-18.41 40.04,-19.34 38.75,-20.16 37.4,-20.86 35.99,-21.44 34.53,-21.9 33.04,-22.23 31.53,-22.43 30,-22.5 -30,-22.5 -31.53,-22.43 -33.04,-22.23 -34.53,-21.9 -35.99,-21.44 -37.4,-20.86 -38.75,-20.16 -40.04,-19.34 -41.25,-18.41 -42.37,-17.37 -43.41,-16.25 -44.34,-15.04 -45.16,-13.75 -45.86,-12.4 -46.44,-10.99 -46.9,-9.53 -47.23,-8.04 -47.43,-6.53 -47.5,-5 -47.5,5 -47.43,6.53 -47.23,8.04 -46.9,9.53 -46.44,10.99 -45.86,12.4 -45.16,13.75 -44.34,15.04 -43.41,16.25 -42.37,17.37 -41.25,18.41 -40.04,19.34 -38.75,20.16 -37.4,20.86 -35.99,21.44 -34.53,21.9 -33.04,22.23 -31.53,22.43
Top Component Center:
  lines w1: -10,0 10,0 ; 0,-10 0,10
Mechanical34:
  text "1" at -34,0 h10
  text "2" at 26,0 h10
Mechanical38:
  dashed: 5,-156.2 30,-152.2 5,-148.2
  dashed: -5,-148.2 -30,-152.2 -5,-156.2
  dashed: 167.3,40 171.3,15 175.3,40
  dashed: 175.3,-40 171.3,-15 167.3,-40
  dashed: 5,-77.3 30,-73.3 5,-69.3
  dashed: -5,-69.3 -30,-73.3 -5,-77.3
  lines w1: -63.1,-73.3 -30,-73.3 30,-73.3 ; -60.1,-152.2 -30,-152.2 30,-152.2 ; -30,-162.2 -30,-10 ; -30,-83.3 -30,-25 ; 30,-162.2 30,-10 ; 30,-83.3 30,-25 ; 40,-15 181.3,-15 ; 40,15 181.3,15 ; 171.3,-65 171.3,-15 ; 171.3,15 171.3,31.8
  text "RC0603_OV" at -111,288 h25
  text "PAD O035X045S" at -164.4,221.9 h25
  text "ALL DIMS IN MIL" at -200,-400 h25
  text "60.0" at -196.3,-167.7 h25
  text "30.0" at 116.3,58 h25
  text "60.0" at -199.3,-88.8 h25
Top Assembly:
  lines w6: -30,-15 30,-15 30,15 -30,15 -30,-15
Mechanical40:
  dashed: -30,-32.5 -32.4,-32.4 -34.78,-32.08 -37.12,-31.56 -39.41,-30.84 -41.62,-29.92 -43.75,-28.82 -45.77,-27.53 -47.68,-26.07 -49.45,-24.45 -51.07,-22.68 -52.53,-20.77 -53.82,-18.75 -54.92,-16.62 -55.84,-14.41 -56.56,-12.12 -57.08,-9.78 -57.4,-7.4 -57.5,-5 -57.5,5 -57.4,7.4 -57.08,9.78 -56.56,12.12 -55.84,14.41 -54.92,16.62 -53.82,18.75 -52.53,20.77 -51.07,22.68 -49.45,24.45 -47.68,26.07 -45.77,27.53 -43.75,28.82 -41.62,29.92 -39.41,30.84 -37.12,31.56 -34.78,32.08 -32.4,32.4 -30,32.5 30,32.5 32.4,32.4 34.78,32.08 37.12,31.56 39.41,30.84 41.62,29.92 43.75,28.82 45.77,27.53 47.68,26.07 49.45,24.45 51.07,22.68 52.53,20.77 53.82,18.75 54.92,16.62 55.84,14.41 56.56,12.12 57.08,9.78 57.4,7.4 57.5,5 57.5,-5 57.4,-7.4 57.08,-9.78 56.56,-12.12 55.84,-14.41 54.92,-16.62 53.82,-18.75 52.53,-20.77 51.07,-22.68 49.45,-24.45 47.68,-26.07 45.77,-27.53 43.75,-28.82 41.62,-29.92 39.41,-30.84 37.12,-31.56 34.78,-32.08 32.4,-32.4 30,-32.5
3D body: height 150, standoff 0, extent -47.5,-22.5 47.5,22.5

## RC0805_OV [mil] "RC0805_OV"
pads (2):
  oval 35x60 smd: 1(-38,0) 2(38,0)
Top Layer keep-out:
  region: -20,25 20,25 20,-25 -20,-25
Top Overlay:
  lines w6: -9.5,-25 9.5,-25 9.5,25 -9.5,25 -9.5,-25
  text ".Designator" at 40,-50 h30
Top Courtyard:
  dashed: -38,-30 38,-30 39.53,-29.93 41.04,-29.73 42.53,-29.4 43.99,-28.94 45.4,-28.36 46.75,-27.66 48.04,-26.84 49.25,-25.91 50.37,-24.87 51.41,-23.75 52.34,-22.54 53.16,-21.25 53.86,-19.9 54.44,-18.49 54.9,-17.03 55.23,-15.54 55.43,-14.03 55.5,-12.5 55.5,12.5 55.43,14.03 55.23,15.54 54.9,17.03 54.44,18.49 53.86,19.9 53.16,21.25 52.34,22.54 51.41,23.75 50.37,24.87 49.25,25.91 48.04,26.84 46.75,27.66 45.4,28.36 43.99,28.94 42.53,29.4 41.04,29.73 39.53,29.93 38,30 -38,30 -39.53,29.93 -41.04,29.73 -42.53,29.4 -43.99,28.94 -45.4,28.36 -46.75,27.66 -48.04,26.84 -49.25,25.91 -50.37,24.87 -51.41,23.75 -52.34,22.54 -53.16,21.25 -53.86,19.9 -54.44,18.49 -54.9,17.03 -55.23,15.54 -55.43,14.03 -55.5,12.5 -55.5,-12.5 -55.43,-14.03 -55.23,-15.54 -54.9,-17.03 -54.44,-18.49 -53.86,-19.9 -53.16,-21.25 -52.34,-22.54 -51.41,-23.75 -50.37,-24.87 -49.25,-25.91 -48.04,-26.84 -46.75,-27.66 -45.4,-28.36 -43.99,-28.94 -42.53,-29.4 -41.04,-29.73 -39.53,-29.93
Top 3D Body:
  region: -38,-30 38,-30 39.53,-29.93 41.04,-29.73 42.53,-29.4 43.99,-28.94 45.4,-28.36 46.75,-27.66 48.04,-26.84 49.25,-25.91 50.37,-24.87 51.41,-23.75 52.34,-22.54 53.16,-21.25 53.86,-19.9 54.44,-18.49 54.9,-17.03 55.23,-15.54 55.43,-14.03 55.5,-12.5 55.5,12.5 55.43,14.03 55.23,15.54 54.9,17.03 54.44,18.49 53.86,19.9 53.16,21.25 52.34,22.54 51.41,23.75 50.37,24.87 49.25,25.91 48.04,26.84 46.75,27.66 45.4,28.36 43.99,28.94 42.53,29.4 41.04,29.73 39.53,29.93 38,30 -38,30 -39.53,29.93 -41.04,29.73 -42.53,29.4 -43.99,28.94 -45.4,28.36 -46.75,27.66 -48.04,26.84 -49.25,25.91 -50.37,24.87 -51.41,23.75 -52.34,22.54 -53.16,21.25 -53.86,19.9 -54.44,18.49 -54.9,17.03 -55.23,15.54 -55.43,14.03 -55.5,12.5 -55.5,-12.5 -55.43,-14.03 -55.23,-15.54 -54.9,-17.03 -54.44,-18.49 -53.86,-19.9 -53.16,-21.25 -52.34,-22.54 -51.41,-23.75 -50.37,-24.87 -49.25,-25.91 -48.04,-26.84 -46.75,-27.66 -45.4,-28.36 -43.99,-28.94 -42.53,-29.4 -41.04,-29.73 -39.53,-29.93
Top Component Center:
  lines w1: -10,0 10,0 ; 0,-10 0,10
Mechanical34:
  text "1" at -38,4 h10
  text "2" at 38,4 h10
Mechanical38:
  lines w1: -155.5,-159 -38,-159 ; -118,-285.5 -40,-285.5 ; -40,-310.5 -40,-50 ; -38,-184 -38,-25 ; -38,-117 -35.5,-117 ; 38,-184 38,-25 ; 40,-310.5 40,-50 ; 65,-25 325,-25 ; 65,25 325,25 ; 188,-159 38,-159 ; 190,-285.5 40,-285.5 ; 300,-178.75 300,-25 ; 300,175 300,25 ; -40,-285.5 -115,-298 -115,-273 -40,-285.5 ; -38,-159 -113,-171.5 -113,-146.5 -38,-159 ; 38,-159 113,-146.5 113,-171.5 38,-159 ; 40,-285.5 115,-273 115,-298 40,-285.5 ; 300,-25 312.5,-100 287.5,-100 300,-25 ; 300,25 287.5,100 312.5,100 300,25
  text "RC0805_OV" at -110,170 h25
  text "PAD 1 2 O035X060S" at -210,-470 h25
  text "ALL DIMS IN MILS" at -210,-520 h25
  text "80.0" at -329,-305.5 h25
  text "76.0" at -366.5,-179 h25
  text "50.0" at 315.5,-315 h25
Top Assembly:
  lines w6: -40,-25 40,-25 40,25 -40,25 -40,-25
Mechanical40:
  dashed: -38,-40 -40.4,-39.9 -42.78,-39.58 -45.12,-39.06 -47.41,-38.34 -49.62,-37.42 -51.75,-36.32 -53.77,-35.03 -55.68,-33.57 -57.45,-31.95 -59.07,-30.18 -60.53,-28.27 -61.82,-26.25 -62.92,-24.12 -63.84,-21.91 -64.56,-19.62 -65.08,-17.28 -65.4,-14.9 -65.5,-12.5 -65.5,12.5 -65.4,14.9 -65.08,17.28 -64.56,19.62 -63.84,21.91 -62.92,24.12 -61.82,26.25 -60.53,28.27 -59.07,30.18 -57.45,31.95 -55.68,33.57 -53.77,35.03 -51.75,36.32 -49.62,37.42 -47.41,38.34 -45.12,39.06 -42.78,39.58 -40.4,39.9 -38,40 38,40 40.4,39.9 42.78,39.58 45.12,39.06 47.41,38.34 49.62,37.42 51.75,36.32 53.77,35.03 55.68,33.57 57.45,31.95 59.07,30.18 60.53,28.27 61.82,26.25 62.92,24.12 63.84,21.91 64.56,19.62 65.08,17.28 65.4,14.9 65.5,12.5 65.5,-12.5 65.4,-14.9 65.08,-17.28 64.56,-19.62 63.84,-21.91 62.92,-24.12 61.82,-26.25 60.53,-28.27 59.07,-30.18 57.45,-31.95 55.68,-33.57 53.77,-35.03 51.75,-36.32 49.62,-37.42 47.41,-38.34 45.12,-39.06 42.78,-39.58 40.4,-39.9 38,-40
3D body: height 150, standoff 0, extent -55.5,-30 55.5,30

## SKT2X6_100_TH_RA [mil] "SKT2X6_100_TH_RA"
pads (12):
  rect 65x65 / inner round 65 / far side rect 65x65 hole 40: 1(-194.54,250)
  round 65 hole 40: 2(-94.54,250) 3(-194.54,150) 4(-94.54,150) 5(-194.54,50) 6(-94.54,50) 7(-194.54,-50) 8(-94.54,-50) 9(-194.54,-150) 10(-94.54,-150) 11(-194.54,-250) 12(-94.54,-250)
Bottom Layer:
  region: -307.04,-362.5 17.96,-362.5 17.96,362.5 -307.04,362.5
Top Overlay:
  lines w6: -42.48,-323.73 314.04,-323.73 314.04,323.73 -42.48,323.73 -42.48,-323.73
  text ".Designator" at -254.04,170 h30
  text "11" at -179.04,-350 h30
  text "12" at -74.04,-350 h30
  text "1" at -174.04,295 h30
  text "2" at -74.04,295 h30
Bottom Overlay:
  text ".Designator" at -129.04,35 h30
  text "11" at -169.04,-330 h25
  text "12" at -74.04,-330 h25
  text "1" at -191.78,300 h30
  text "2" at -73.67,300 h30
Top Courtyard:
  dashed: -35.48,-316.73 -35.48,-282.5 -227.04,-282.5 -227.04,282.5 -35.48,282.5 -35.48,316.73 307.04,316.73 307.04,-316.73
Bottom Courtyard:
  dashed: -307.04,-362.5 17.96,-362.5 17.96,362.5 -307.04,362.5
Top 3D Body:
  region: -35.48,-316.73 -35.48,-282.5 -227.04,-282.5 -227.04,282.5 -35.48,282.5 -35.48,316.73 307.04,316.73 307.04,-316.73
Top Component Center:
  lines w1: -204.54,250 -184.54,250 ; -194.54,240 -194.54,260
Mechanical 31:
  dashed: 457.04,-466.73 -185.48,-466.73 -185.48,-432.5 -377.04,-432.5 -377.04,432.5 -185.48,432.5 -185.48,466.73 457.04,466.73
Mechanical34:
  text "7" at -194.54,-54 h10
  text "3" at -194.54,146 h10
  text "5" at -194.54,46 h10
  text "2" at -94.54,246 h10
  text "1" at -194.54,246 h10
  text "4" at -94.54,146 h10
  text "6" at -94.54,46 h10
  text "12" at -94.54,-258 h10
  text "11" at -194.54,-258 h10
  text "8" at -94.54,-54 h10
  text "10" at -94.54,-158 h10
  text "9" at -194.54,-154 h10
Mechanical35:
  text "SKT2X6_100_TH_RA" at -207.53,496.85 h31
  text "PAD1 S065-040T" at -120.92,-495.28 h31
  text "PADS 2-12 C065-040T" at -165.07,-544.98 h31
  text "ALL DIMS IN MM." at -122.82,-592.22 h31
Top Assembly:
  lines w6: -152.41,370.87 186.17,370.87 91.68,394.49 91.68,347.24 178.3,370.87 ; -35.48,-316.73 307.04,-316.73 307.04,316.73 -35.48,316.73 -35.48,-316.73
  text "PCB EDGE SIDE" at -290.67,392.03 h31
  text "11" at -213.54,-325.26 h25
  text "12" at -111.18,-325.26 h25
  text "2" at -89.55,299.54 h25
  text "1" at -207.66,299.54 h25
3D body: height 150, standoff 0, extent -227.04,-316.73 307.04,316.73

## SLP1616P6 [mm] "SLP1616P6"
pads (7):
  rect 0.305x0.635 smd: 1(-0.5,-0.76) 2(0,-0.76) 3(0.5,-0.76) 4(0.5,0.76) 5(0,0.76) 6(-0.5,0.76)
  rect 1.295x0.457 smd: 7(0,0)
Top Overlay:
  lines w0.152: -1.099,0.296 cw(c-1.156,-0.006) -0.849,-0.006 ; -1.096,-0.287 ccw(c-1.155,0.016) -0.846,0.016 ; -1.046,0.261 -1.044,0.91 ; -1.035,-0.241 -1.033,-0.856 ; 1.031,-0.906 1.031,0.894
  text ".Designator" at -2.54,0.635 h0.76
  text "1" at -1.016,-1.956 h0.76
Top Courtyard:
  dashed: -0.85,-1.075 0.85,-1.075 0.85,1.075 -0.85,1.075
Top 3D Body:
  region: -0.85,-1.075 0.85,-1.075 0.85,1.075 -0.85,1.075
Top Component Center:
  lines w0.025: -0.254,0 0.254,0 ; 0,-0.254 0,0.254
Mechanical34:
  text "6" at -0.5,0.658 h0.25
  text "1" at -0.5,-0.862 h0.25
  text "2" at 0,-0.862 h0.25
  text "4" at 0.5,0.658 h0.25
  text "5" at 0,0.658 h0.25
  text "3" at 0.5,-0.862 h0.25
  text "7" at 0,-0.102 h0.25
Mechanical38:
  lines w0.025: -7.694,-7.9 -0.85,-7.9 ; -6.261,-7.215 -6.743,-7.215 -6.743,-5.945 -6.261,-5.945 ; -6.155,2.539 -6.155,2.057 -4.885,2.057 -4.885,2.539 ; -6.155,7.06 -6.155,7.542 -4.885,7.542 -4.885,7.06 ; -4.7,-0.76 -1,-0.76 ; -4.7,0.76 -1,0.76 ; -4.2,-2.76 -4.2,-0.76 ; -4.2,8.494 -4.2,0.76 ; -2,2.3 0,2.3 ; -1.74,-7.215 -1.258,-7.215 -1.258,-5.945 -1.74,-5.945 ; -0.85,-8.4 -0.85,-1.35 ; 0,1.26 0,2.8 ; 0.5,1.26 0.5,2.8 ; 0.85,-8.4 0.85,-1.35 ; 1.35,-0.85 10,-0.85 ; 1.35,0.85 10,0.85 ; 2.85,-7.9 0.85,-7.9 ; 3.439,2.985 2.957,2.985 2.957,4.255 3.439,4.255 ; 7.545,-6.161 7.545,-6.643 8.815,-6.643 8.815,-6.161 ; 7.545,-1.64 7.545,-1.158 8.815,-1.158 8.815,-1.64 ; 7.96,2.985 8.442,2.985 8.442,4.255 7.96,4.255 ; 9.394,2.3 0.5,2.3 ; 9.5,-7.594 9.5,-0.85 ; 9.5,2.85 9.5,0.85 ; -4.2,-0.76 -3.95,-1.76 -4.45,-1.76 -4.2,-0.76 ; -4.2,-0.76 -4.2,0.76 ; -4.2,0.76 -4.45,1.76 -3.95,1.76 -4.2,0.76 ; -0.85,-7.9 -1.85,-8.15 -1.85,-7.65 -0.85,-7.9 ; -0.85,-7.9 0.85,-7.9 ; 0,2.3 -1,2.05 -1,2.55 0,2.3 ; 0,2.3 0.5,2.3 ; 0.5,2.3 1.5,2.55 1.5,2.05 0.5,2.3 ; 0.85,-7.9 1.85,-7.65 1.85,-8.15 0.85,-7.9 ; 9.5,-0.85 9.75,-1.85 9.25,-1.85 9.5,-0.85 ; 9.5,-0.85 9.5,0.85 ; 9.5,0.85 9.25,1.85 9.75,1.85 9.5,0.85
  text "ALL DIMS. IN MM" at -3.94,-12.206 h0.79
  text "[INCH]" at -3.56,-13.442 h0.79
  text "PAD=R012X025SX6" at -3.465,-15.152 h0.79
  text "PAD=R051X018S" at -2.609,-16.862 h0.79
  text "slp1616p6" at -2.757,7.065 h0.79
  text "0.5" at 3.897,5.525 h0.79
  text ".02" at 3.922,2.985 h0.79
  text "1.52" at -7.425,2.349 h0.79
  text ".06" at -4.885,3.022 h0.79
  text "1.7" at -5.803,-4.675 h0.79
  text ".07" at -5.778,-7.215 h0.79
  text "1.7" at 6.275,-5.703 h0.79
  text ".07" at 8.815,-5.678 h0.79
Top Assembly:
  lines w0.127: -0.85,-0.303 ccw(c-0.909,0) -0.6,0
  lines w0.152: -0.85,-0.3 -0.85,-0.85 0.85,-0.85 0.85,0.85 -0.85,0.85 -0.85,0.3 ; -0.85,0.302 cw(c-0.907,0) -0.6,0
  text "1" at -1.431,-1.39 h0.64
Mechanical40:
  lines w0.025: -1.104,-1.329 -1.104,1.329 1.104,1.329 1.104,-1.329 -1.104,-1.329
3D body: height 3.81, standoff 0, extent -0.85,-1.075 0.85,1.075